# Altium footprint library Connector-KF-2510.PcbLib: 4 footprints
Each footprint in its own frame and in the unit in brackets; x right, y up, seen from the top. Pads: shape width x height; smd on the part's side, far side on the other; paste and mask are expansions set on the pad; w line width, h text height; cw(c..) or ccw(c..) is an arc to the next point about the centre after c.
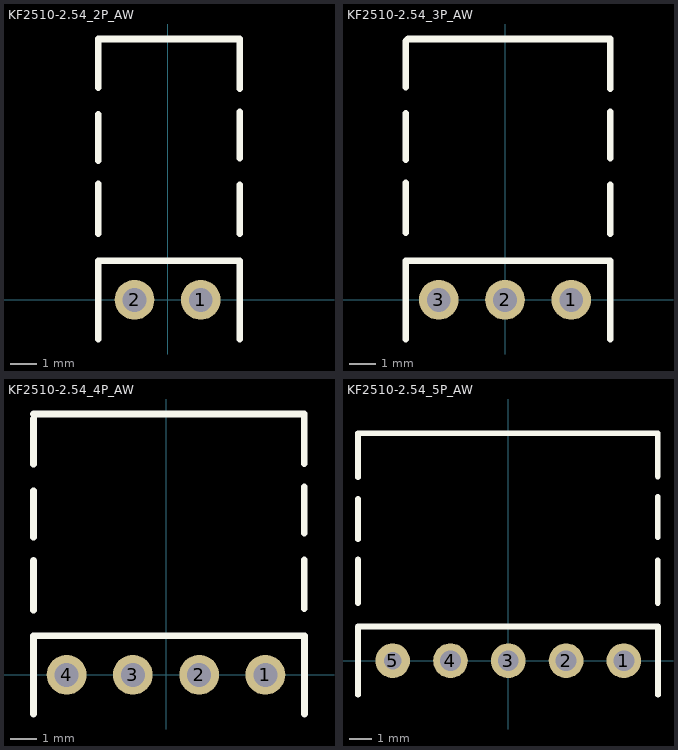
[diagram p0: the footprints below, top view; thin cyan lines are the x and y axes]

## KF2510-2.54_2P_AW [mil]
pads (2):
  round 60 hole 36: 1(50,0) 2(-50,0)
Top Overlay:
  lines w10: -105,-59.06 -105,59.06 108.78,59.06 ; -105,100 -105,175 ; -105,210 -105,280 ; -105,320 -105,393.7 108.78,393.7 108.78,318.7 ; 108.78,100 108.78,173.7 ; 108.78,213.7 108.78,283.7 ; 109.06,-59.06 109.06,59.06
3D body "Header 2510-2.STEP": height 228.35, standoff -138.19, extent -100.39,-25 100.39,412

## KF2510-2.54_3P_AW [mil]
pads (3):
  round 60 hole 36: 1(100,0) 2(0,0) 3(-100,0)
Top Overlay:
  lines w10: -150,-59.06 -150,59.06 158.78,59.06 ; -150,101.3 -150,176.3 ; -150,211.3 -150,281.3 ; -150,321.3 -150,390 -146.3,393.7 -55,393.7 158.78,393.7 158.78,318.7 ; 158.78,100 158.78,173.7 ; 158.78,213.7 158.78,283.7 ; 159.06,-59.06 159.06,59.06
3D body "Header 2510-3.STEP": height 228.35, standoff -142.95, extent -149.21,-25 149.22,415.94

## KF2510-2.54_4P_AW [mil]
pads (4):
  round 60 hole 36: 1(150,0) 2(50,0) 3(-50,0) 4(-150,0)
Top Overlay:
  lines w10: -200,-59.06 -200,59.06 208.78,59.06 ; -200,97.6 -200,172.6 ; -200,207.6 -200,277.6 ; -200,317.6 -200,386.3 ; -200,393.7 -5,393.7 208.78,393.7 208.78,318.7 ; 208.78,100 208.78,173.7 ; 208.78,213.7 208.78,283.7 ; 209.06,-59.06 209.06,59.06
3D body "Header 2510-4.STEP": height 228.35, standoff -137.89, extent -196.85,-25 196.85,400.2

## KF2510-2.54_5P_AW [mil]
pads (5):
  round 60 hole 36: 1(200,0) 2(100,0) 3(0,0) 4(-100,0)
  round 60 hole 30: 5(-200,0)
Top Overlay:
  lines w10: -260,-59.06 -260,59.06 258.78,59.06 ; -260,100 -260,175 ; -260,210 -260,280 ; -260,317.6 -260,393.7 45,393.7 258.78,393.7 258.78,318.7 ; 258.78,100 258.78,173.7 ; 258.78,213.7 258.78,283.7 ; 259.06,-59.06 259.06,59.06